# EAGLE library part QFP240 (library mita-akiba)
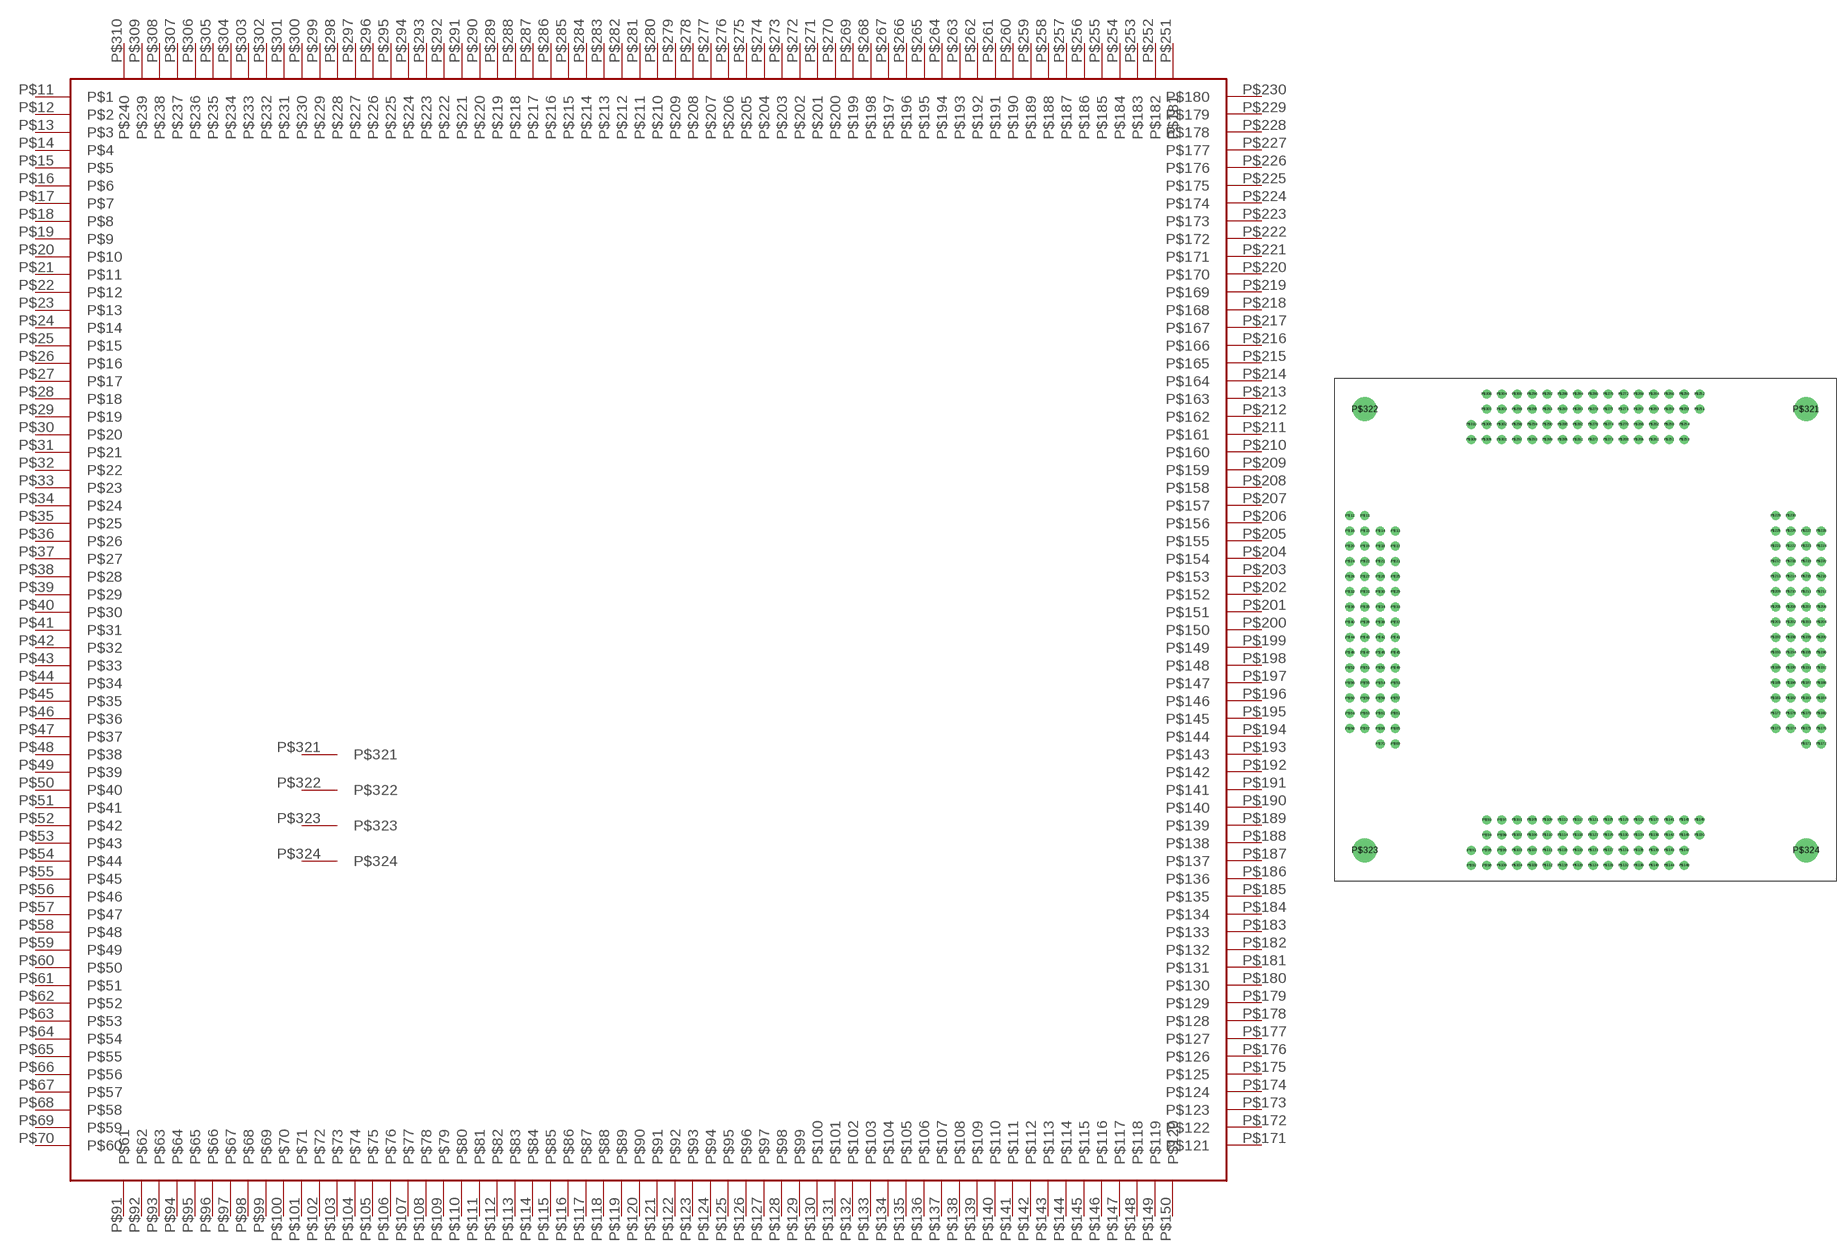
[diagram p8: symbol with the pads of QFP240; footprint QFP240]

Designator prefix -

## QFP240  [QFP240]
P$11  P$1
P$12  P$2
P$13  P$3
P$14  P$4
P$15  P$5
P$16  P$6
P$17  P$7
P$18  P$8
P$19  P$9
P$20  P$10
P$21  P$11
P$22  P$12
P$23  P$13
P$24  P$14
P$25  P$15
P$26  P$16
P$27  P$17
P$28  P$18
P$29  P$19
P$30  P$20
P$31  P$21
P$32  P$22
P$33  P$23
P$34  P$24
P$35  P$25
P$36  P$26
P$37  P$27
P$38  P$28
P$39  P$29
P$40  P$30
P$41  P$31
P$42  P$32
P$43  P$33
P$44  P$34
P$45  P$35
P$46  P$36
P$47  P$37
P$48  P$38
P$49  P$39
P$50  P$40
P$51  P$41
P$52  P$42
P$53  P$43
P$54  P$44
P$55  P$45
P$56  P$46
P$57  P$47
P$58  P$48
P$59  P$49
P$60  P$50
P$61  P$51
P$62  P$52
P$63  P$53
P$64  P$54
P$65  P$55
P$66  P$56
P$67  P$57
P$68  P$58
P$69  P$59
P$70  P$60
P$91  P$61
P$92  P$62
P$93  P$63
P$94  P$64
P$95  P$65
P$96  P$66
P$97  P$67
P$98  P$68
P$99  P$69
P$100  P$70
P$101  P$71
P$102  P$72
P$103  P$73
P$104  P$74
P$105  P$75
P$106  P$76
P$107  P$77
P$108  P$78
P$109  P$79
P$110  P$80
P$111  P$81
P$112  P$82
P$113  P$83
P$114  P$84
P$115  P$85
P$116  P$86
P$117  P$87
P$118  P$88
P$119  P$89
P$120  P$90
P$121  P$91
P$122  P$92
P$123  P$93
P$124  P$94
P$125  P$95
P$126  P$96
P$127  P$97
P$128  P$98
P$129  P$99
P$130  P$100
P$131  P$101
P$132  P$102
P$133  P$103
P$134  P$104
P$135  P$105
P$136  P$106
P$137  P$107
P$138  P$108
P$139  P$109
P$140  P$110
P$141  P$111
P$142  P$112
P$143  P$113
P$144  P$114
P$145  P$115
P$146  P$116
P$147  P$117
P$148  P$118
P$149  P$119
P$150  P$120
P$171  P$121
P$172  P$122
P$173  P$123
P$174  P$124
P$175  P$125
P$176  P$126
P$177  P$127
P$178  P$128
P$179  P$129
P$180  P$130
P$181  P$131
P$182  P$132
P$183  P$133
P$184  P$134
P$185  P$135
P$186  P$136
P$187  P$137
P$188  P$138
P$189  P$139
P$190  P$140
P$191  P$141
P$192  P$142
P$193  P$143
P$194  P$144
P$195  P$145
P$196  P$146
P$197  P$147
P$198  P$148
P$199  P$149
P$200  P$150
P$201  P$151
P$202  P$152
P$203  P$153
P$204  P$154
P$205  P$155
P$206  P$156
P$207  P$157
P$208  P$158
P$209  P$159
P$210  P$160
P$211  P$161
P$212  P$162
P$213  P$163
P$214  P$164
P$215  P$165
P$216  P$166
P$217  P$167
P$218  P$168
P$219  P$169
P$220  P$170
P$221  P$171
P$222  P$172
P$223  P$173
P$224  P$174
P$225  P$175
P$226  P$176
P$227  P$177
P$228  P$178
P$229  P$179
P$230  P$180
P$251  P$181
P$252  P$182
P$253  P$183
P$254  P$184
P$255  P$185
P$256  P$186
P$257  P$187
P$258  P$188
P$259  P$189
P$260  P$190
P$261  P$191
P$262  P$192
P$263  P$193
P$264  P$194
P$265  P$195
P$266  P$196
P$267  P$197
P$268  P$198
P$269  P$199
P$270  P$200
P$271  P$201
P$272  P$202
P$273  P$203
P$274  P$204
P$275  P$205
P$276  P$206
P$277  P$207
P$278  P$208
P$279  P$209
P$280  P$210
P$281  P$211
P$282  P$212
P$283  P$213
P$284  P$214
P$285  P$215
P$286  P$216
P$287  P$217
P$288  P$218
P$289  P$219
P$290  P$220
P$291  P$221
P$292  P$222
P$293  P$223
P$294  P$224
P$295  P$225
P$296  P$226
P$297  P$227
P$298  P$228
P$299  P$229
P$300  P$230
P$301  P$231
P$302  P$232
P$303  P$233
P$304  P$234
P$305  P$235
P$306  P$236
P$307  P$237
P$308  P$238
P$309  P$239
P$310  P$240
P$321  P$321
P$322  P$322
P$323  P$323
P$324  P$324

## Footprint QFP240 (pad centres in mm)
drill 0.9 pad 1.5: P$11 -36.83,19.05; P$12 -39.37,19.05; P$13 -31.75,16.51; P$14 -34.29,16.51; P$15 -36.83,16.51; P$16 -39.37,16.51; P$17 -31.75,13.97; P$18 -34.29,13.97; P$19 -36.83,13.97; P$20 -39.37,13.97; P$21 -31.75,11.43; P$22 -34.29,11.43; P$23 -36.83,11.43; P$24 -39.37,11.43; P$25 -31.75,8.89; P$26 -34.29,8.89; P$27 -36.83,8.89; P$28 -39.37,8.89; P$29 -31.75,6.35; P$30 -34.29,6.35; P$31 -36.83,6.35; P$32 -39.37,6.35; P$33 -31.75,3.81; P$34 -34.29,3.81; P$35 -36.83,3.81; P$36 -39.37,3.81; P$37 -31.75,1.27; P$38 -34.29,1.27; P$39 -36.83,1.27; P$40 -39.37,1.27; P$41 -31.75,-1.27; P$42 -34.29,-1.27; P$43 -36.83,-1.27; P$44 -39.37,-1.27; P$45 -31.75,-3.81; P$46 -34.29,-3.81; P$47 -36.83,-3.81; P$48 -39.37,-3.81; P$49 -31.75,-6.35; P$50 -34.29,-6.35; P$51 -36.83,-6.35; P$52 -39.37,-6.35; P$53 -31.75,-8.89; P$54 -34.29,-8.89; P$55 -36.83,-8.89; P$56 -39.37,-8.89; P$57 -31.75,-11.43; P$58 -34.29,-11.43; P$59 -36.83,-11.43; P$60 -39.37,-11.43; P$61 -31.75,-13.97; P$62 -34.29,-13.97; P$63 -36.83,-13.97; P$64 -39.37,-13.97; P$65 -31.75,-16.51; P$66 -34.29,-16.51; P$67 -36.83,-16.51; P$68 -39.37,-16.51; P$69 -31.75,-19.05; P$70 -34.29,-19.05; P$91 -19.05,-36.83; P$92 -19.05,-39.37; P$93 -16.51,-31.75; P$94 -16.51,-34.29; P$95 -16.51,-36.83; P$96 -16.51,-39.37; P$97 -13.97,-31.75; P$98 -13.97,-34.29; P$99 -13.97,-36.83; P$100 -13.97,-39.37; P$101 -11.43,-31.75; P$102 -11.43,-34.29; P$103 -11.43,-36.83; P$104 -11.43,-39.37; P$105 -8.89,-31.75; P$106 -8.89,-34.29; P$107 -8.89,-36.83; P$108 -8.89,-39.37; P$109 -6.35,-31.75; P$110 -6.35,-34.29; P$111 -6.35,-36.83; P$112 -6.35,-39.37; P$113 -3.81,-31.75; P$114 -3.81,-34.29; P$115 -3.81,-36.83; P$116 -3.81,-39.37; P$117 -1.27,-31.75; P$118 -1.27,-34.29; P$119 -1.27,-36.83; P$120 -1.27,-39.37; P$121 1.27,-31.75; P$122 1.27,-34.29; P$123 1.27,-36.83; P$124 1.27,-39.37; P$125 3.81,-31.75; P$126 3.81,-34.29; P$127 3.81,-36.83; P$128 3.81,-39.37; P$129 6.35,-31.75; P$130 6.35,-34.29; P$131 6.35,-36.83; P$132 6.35,-39.37; P$133 8.89,-31.75; P$134 8.89,-34.29; P$135 8.89,-36.83; P$136 8.89,-39.37; P$137 11.43,-31.75; P$138 11.43,-34.29; P$139 11.43,-36.83; P$140 11.43,-39.37; P$141 13.97,-31.75; P$142 13.97,-34.29; P$143 13.97,-36.83; P$144 13.97,-39.37; P$145 16.51,-31.75; P$146 16.51,-34.29; P$147 16.51,-36.83; P$148 16.51,-39.37; P$149 19.05,-31.75; P$150 19.05,-34.29; P$171 36.83,-19.05; P$172 39.37,-19.05; P$173 31.75,-16.51; P$174 34.29,-16.51; P$175 36.83,-16.51; P$176 39.37,-16.51; P$177 31.75,-13.97; P$178 34.29,-13.97; P$179 36.83,-13.97; P$180 39.37,-13.97; P$181 31.75,-11.43; P$182 34.29,-11.43; P$183 36.83,-11.43; P$184 39.37,-11.43; P$185 31.75,-8.89; P$186 34.29,-8.89; P$187 36.83,-8.89; P$188 39.37,-8.89; P$189 31.75,-6.35; P$190 34.29,-6.35; P$191 36.83,-6.35; P$192 39.37,-6.35; P$193 31.75,-3.81; P$194 34.29,-3.81; P$195 36.83,-3.81; P$196 39.37,-3.81; P$197 31.75,-1.27; P$198 34.29,-1.27; P$199 36.83,-1.27; P$200 39.37,-1.27; P$201 31.75,1.27; P$202 34.29,1.27; P$203 36.83,1.27; P$204 39.37,1.27; P$205 31.75,3.81; P$206 34.29,3.81; P$207 36.83,3.81; P$208 39.37,3.81; P$209 31.75,6.35; P$210 34.29,6.35; P$211 36.83,6.35; P$212 39.37,6.35; P$213 31.75,8.89; P$214 34.29,8.89; P$215 36.83,8.89; P$216 39.37,8.89; P$217 31.75,11.43; P$218 34.29,11.43; P$219 36.83,11.43; P$220 39.37,11.43; P$221 31.75,13.97; P$222 34.29,13.97; P$223 36.83,13.97; P$224 39.37,13.97; P$225 31.75,16.51; P$226 34.29,16.51; P$227 36.83,16.51; P$228 39.37,16.51; P$229 31.75,19.05; P$230 34.29,19.05; P$251 19.05,36.83; P$252 19.05,39.37; P$253 16.51,31.75; P$254 16.51,34.29; P$255 16.51,36.83; P$256 16.51,39.37; P$257 13.97,31.75; P$258 13.97,34.29; P$259 13.97,36.83; P$260 13.97,39.37; P$261 11.43,31.75; P$262 11.43,34.29; P$263 11.43,36.83; P$264 11.43,39.37; P$265 8.89,31.75; P$266 8.89,34.29; P$267 8.89,36.83; P$268 8.89,39.37; P$269 6.35,31.75; P$270 6.35,34.29; P$271 6.35,36.83; P$272 6.35,39.37; P$273 3.81,31.75; P$274 3.81,34.29; P$275 3.81,36.83; P$276 3.81,39.37; P$277 1.27,31.75; P$278 1.27,34.29; P$279 1.27,36.83; P$280 1.27,39.37; P$281 -1.27,31.75; P$282 -1.27,34.29; P$283 -1.27,36.83; P$284 -1.27,39.37; P$285 -3.81,31.75; P$286 -3.81,34.29; P$287 -3.81,36.83; P$288 -3.81,39.37; P$289 -6.35,31.75; P$290 -6.35,34.29; P$291 -6.35,36.83; P$292 -6.35,39.37; P$293 -8.89,31.75; P$294 -8.89,34.29; P$295 -8.89,36.83; P$296 -8.89,39.37; P$297 -11.43,31.75; P$298 -11.43,34.29; P$299 -11.43,36.83; P$300 -11.43,39.37; P$301 -13.97,31.75; P$302 -13.97,34.29; P$303 -13.97,36.83; P$304 -13.97,39.37; P$305 -16.51,31.75; P$306 -16.51,34.29; P$307 -16.51,36.83; P$308 -16.51,39.37; P$309 -19.05,31.75; P$310 -19.05,34.29
drill 3 pad 4: P$321 36.83,36.83; P$322 -36.83,36.83; P$323 -36.83,-36.83; P$324 36.83,-36.83